# Altium schematic symbol library UT6264.SchLib: 1 symbol
Pins are listed as number, name and electrical type; pins without a type are passive.

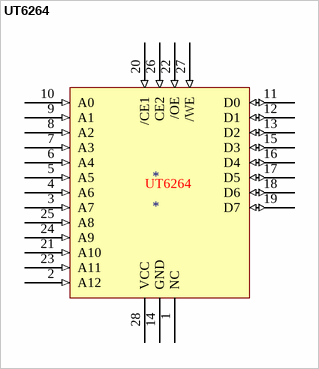
[diagram p0: symbol UT6264]

## UT6264
designator *
footprint SOP127P1207-28N (SOP, 28-Leads, Body 18.1x8.6mm, Pitch 1.27mm, IPC Medium Density)
pins: 1 NC, 2 A12 (in), 3 A7 (in), 4 A6 (in), 5 A5 (in), 6 A4 (in), 7 A3 (in), 8 A2 (in), 9 A1 (in), 10 A0 (in), 11 D0 (io), 12 D1 (io), 13 D2 (io), 14 GND (power), 15 D3 (io), 16 D4 (io), 17 D5 (io), 18 D6 (io), 19 D7 (io), 20 /CE1 (in), 21 A10 (in), 22 /OE (in), 23 A11 (in), 24 A9 (in), 25 A8 (in), 26 CE2 (in), 27 /WE (in), 28 VCC (power)